# Altium schematic symbol library CONNECTOR_PINHEADER_PINSOCKET.SchLib: 7 symbols
Pins are listed as number, name and electrical type; pins without a type are passive.

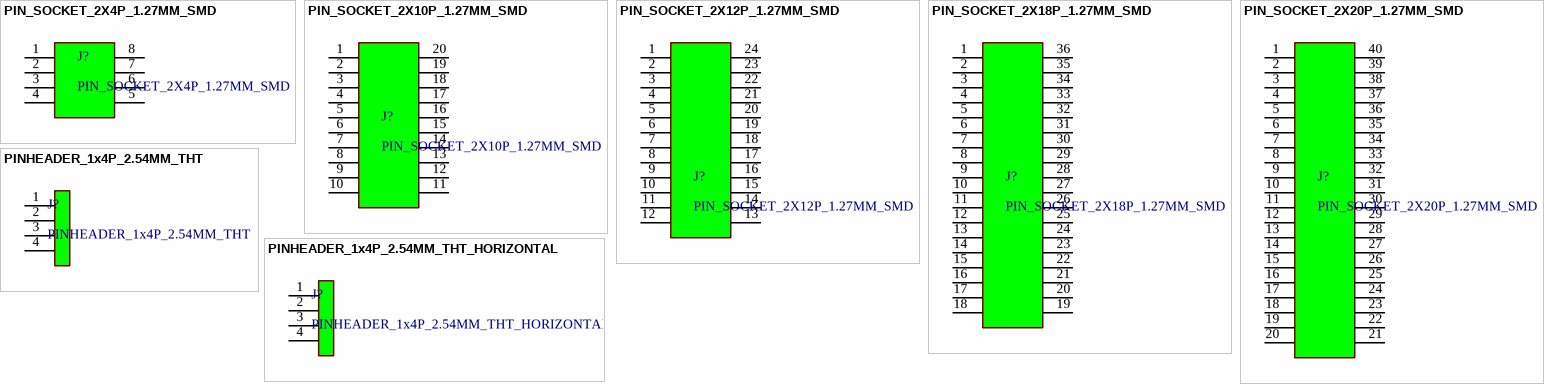
[diagram p0: symbols PIN_SOCKET_2X4P_1.27MM_SMD to PINHEADER_1x4P_2.54MM_THT_HORIZONTAL]

## PIN_SOCKET_2X4P_1.27MM_SMD
designator J?
LCSC: *; MPN: *
footprint PIN_SOCKET_2X4P_1.27MM_SMD
pins: 1, 2, 3, 4, 5, 6, 7, 8

## PIN_SOCKET_2X10P_1.27MM_SMD
designator J?
LCSC: *; MPN: *
footprint PIN_SOCKET_2X10P_1.27MM_SMD
pins: 1, 2, 3, 4, 5, 6, 7, 8, 9, 10, 11, 12, 13, 14, 15, 16, 17, 18, 19, 20

## PIN_SOCKET_2X12P_1.27MM_SMD
designator J?
LCSC: *; MPN: *
footprint PIN_SOCKET_2X12P_1.27MM_SMD
pins: 1, 2, 3, 4, 5, 6, 7, 8, 9, 10, 11, 12, 13, 14, 15, 16, 17, 18, 19, 20, 21, 22, 23, 24

## PIN_SOCKET_2X18P_1.27MM_SMD
designator J?
LCSC: *; MPN: *
footprint PIN_SOCKET_2X18P_1.27MM_SMD
pins: 1, 2, 3, 4, 5, 6, 7, 8, 9, 10, 11, 12, 13, 14, 15, 16, 17, 18, 19, 20, 21, 22, 23, 24, 25, 26, 27, 28, 29, 30, 31, 32, 33, 34, 35, 36

## PIN_SOCKET_2X20P_1.27MM_SMD
designator J?
LCSC: *; MPN: *
footprint PIN_SOCKET_2X20P_1.27MM_SMD
pins: 1, 2, 3, 4, 5, 6, 7, 8, 9, 10, 11, 12, 13, 14, 15, 16, 17, 18, 19, 20, 21, 22, 23, 24, 25, 26, 27, 28, 29, 30, 31, 32, 33, 34, 35, 36, 37, 38, 39, 40

## PINHEADER_1x4P_2.54MM_THT
designator J?
LCSC: *; MPN: *
footprint PINHEADER_1x4P_2.54mm_THT
pins: 1, 2, 3, 4

## PINHEADER_1x4P_2.54MM_THT_HORIZONTAL
designator J?
LCSC: *; MPN: *
footprint PINHEADER_1x4P_2.54MM_THT_HORIZONTAL
pins: 1, 2, 3, 4